# Altium footprint library MolexMicroSD.PcbLib: 1 footprints
Each footprint in its own frame and in the unit in brackets; x right, y up, seen from the top. Pads: shape width x height; smd on the part's side, far side on the other; paste and mask are expansions set on the pad; w line width, h text height; cw(c..) or ccw(c..) is an arc to the next point about the centre after c.
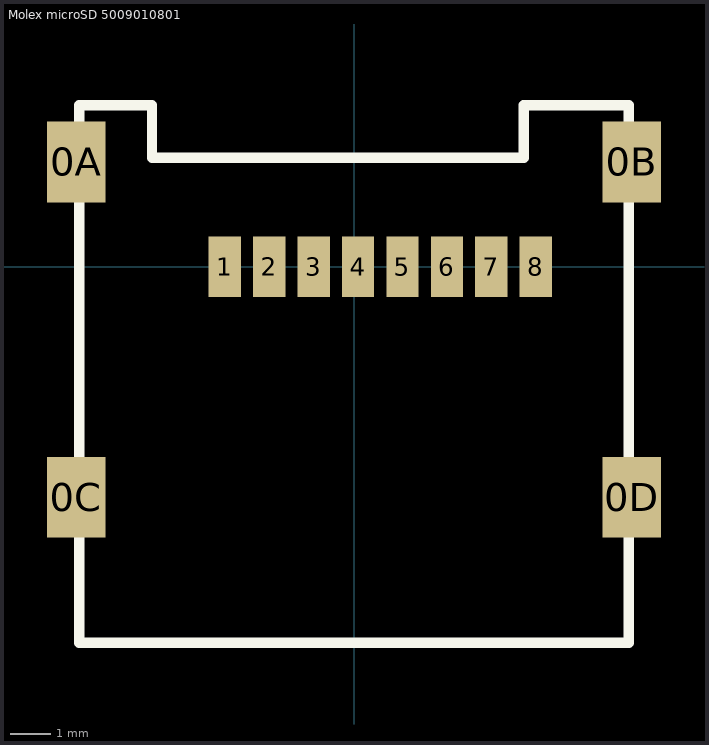
[diagram p0: the footprint, top view; thin cyan lines are the x and y axes]

## Molex microSD 5009010801 [mm] "Porta microSD con tapita"
height 1
pads (12):
  rect 1.45x2 smd: 0A(-6.875,2.6) 0B(6.875,2.6) 0C(-6.875,-5.7) 0D(6.875,-5.7)
  rect 0.8x1.5 smd: 1(-3.2,0) 2(-2.1,0) 3(-1,0) 4(0.1,0) 5(1.2,0) 6(2.3,0) 7(3.4,0) 8(4.5,0)
Top Overlay:
  lines w0.254: -6.8,-9.3 6.8,-9.3 6.8,4 4.2,4 4.2,2.7 -5,2.7 -5,4 -6.8,4 -6.8,-9.3
3D body: height 1.93, standoff -0.02, extent -7.3,-9 7.3,5.5
3D body: height 0.95, standoff -0.03, extent -5.5,-8.5 5.5,6.5